# EAGLE library part PCM1821 (library Harrington-ICs v130)
Audio I2S ADC Texas Instruments - Sterio / 2-channel - 32bit PCM
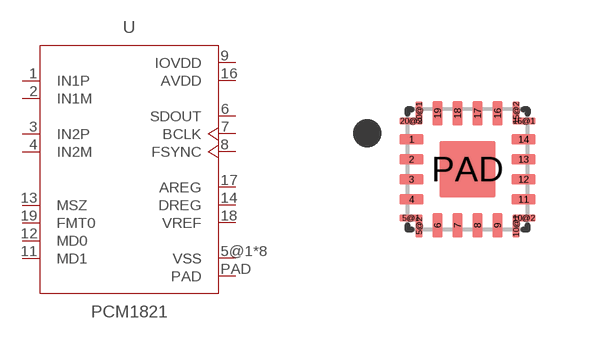
[diagram p11: symbol with the pads of WQFN; footprint WQFN]

Designator prefix U

## PCM1821  [WQFN]
1  IN1P  in
2  IN1M  in
3  IN2P  in
4  IN2M  in
5@1  VSS  pwr
5@2  VSS  pwr
6  SDOUT  out
7  BCLK
8  FSYNC
9  IOVDD  pwr
10@1  VSS  pwr
10@2  VSS  pwr
11  MD1  in
12  MD0  in
13  MSZ  in
14  DREG  pwr
15@1  VSS  pwr
15@2  VSS  pwr
16  AVDD  pwr
17  AREG  pwr
18  VREF  pwr
19  FMT0  in
20@1  VSS  pwr
20@2  VSS  pwr
PAD  PAD  pwr

## Footprint WQFN (pad centres in mm)
smd 0.6 x 0.25: 1 -1.4,0.75; 2 -1.4,0.25; 3 -1.4,-0.25; 4 -1.4,-0.75; 11 1.4,-0.75; 12 1.4,-0.25; 13 1.4,0.25; 14 1.4,0.75
smd 0.575 x 0.175: 5@1 -1.413,-1.212; 10@2 1.413,-1.212; 15@1 1.413,1.212; 20@2 -1.413,1.212
smd 0.175 x 0.575: 5@2 -1.212,-1.413; 10@1 1.212,-1.413; 15@2 1.212,1.413; 20@1 -1.212,1.413
smd 0.25 x 0.6: 6 -0.75,-1.4; 7 -0.25,-1.4; 8 0.25,-1.4; 9 0.75,-1.4; 16 0.75,1.4; 17 0.25,1.4; 18 -0.25,1.4; 19 -0.75,1.4
smd 1.4 x 1.4: PAD 0,0